# Altium schematic symbol library NCP303.Schlib: 1 symbol
Pins are listed as number, name and electrical type; pins without a type are passive.

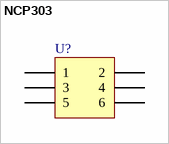
[diagram p0: symbol NCP303]

## NCP303
designator U?
IC, Voltage Detector
pins: 1, 2, 3, 4, 5, 6
1 alternate drawing of the same symbol